# EAGLE library part SN74LVC1T45DBVR (library SamacSys_Parts)
1-Bit Bus Transceiver, Translation SOT23 Texas Instruments SN74LVC1T45DBVR, Voltage Level Translator, Bus Transceiver, 3-State, 1.65 5.5 V, 6-Pin SOT-23 Source: Datasheet <https://componentsearchengine.com/Datasheets/2/SN74LVC1T45DBVR.pdf>
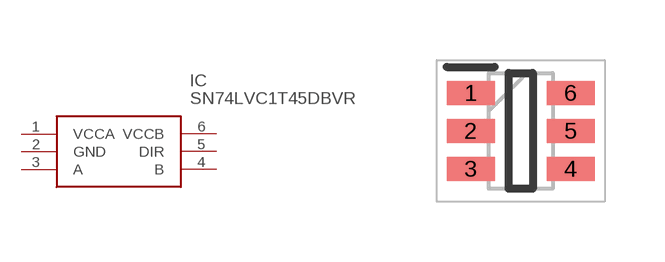
[diagram p221: symbol with the pads of SOT95P280X145-6N; footprint SOT95P280X145-6N]

Designator prefix IC

## SN74LVC1T45DBVR (DESCRIPTION: 1-Bit Bus Transceiver, Translation SOT23 Texas Instruments SN74LVC1T45DBVR, Voltage Level Translator, Bus Transceiver, 3-State, 1.65 5.5 V, 6-Pin SOT-23; HEIGHT: 1.45mm; MANUFACTURER_NAME: Texas Instruments; MANUFACTURER_PART_NUMBER: SN74LVC1T45DBVR; MOUSER_PART_NUMBER: 595-SN74LVC1T45DBVR; MOUSER_PRICE-STOCK: https://www.mouser.co.uk/ProductDetail/Texas-Instruments/SN74LVC1T45DBVR?qs=pajgIaoyDUhg6sKXdsM%2Fvg%3D%3D)  [SOT95P280X145-6N]
1  VCCA
2  GND
3  A
4  B
5  DIR
6  VCCB

## Footprint SOT95P280X145-6N (pad centres in mm)
DBV000a
smd 1.2 x 0.6: 1 -1.25,0.95; 2 -1.25,0; 3 -1.25,-0.95; 4 1.25,-0.95; 5 1.25,0; 6 1.25,0.95